# Altium footprint library crystal.PcbLib: 3 footprints
Each footprint in its own frame and in the unit in brackets; x right, y up, seen from the top. Pads: shape width x height; smd on the part's side, far side on the other; paste and mask are expansions set on the pad; w line width, h text height; cw(c..) or ccw(c..) is an arc to the next point about the centre after c.
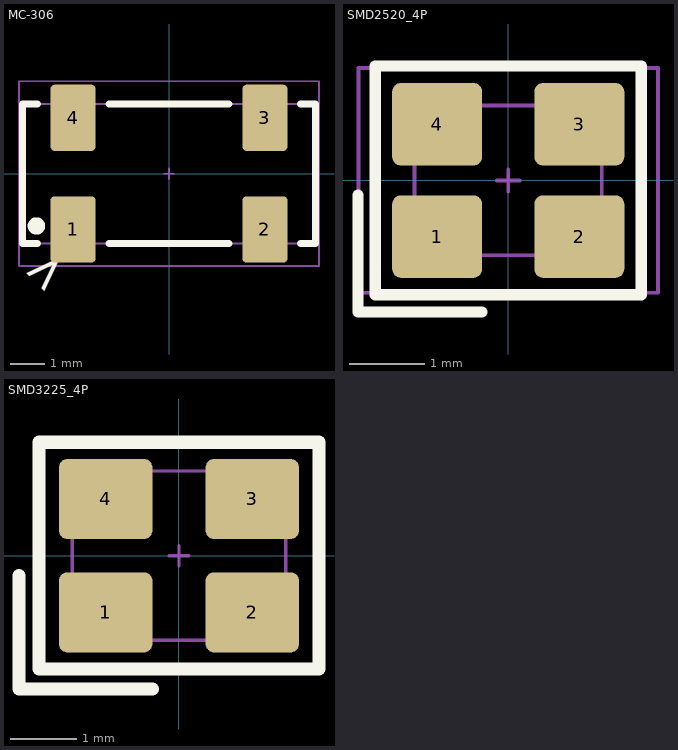
[diagram p0: the footprints below, top view; thin cyan lines are the x and y axes]

## MC-306 [mm]
height 0.89
pads (4):
  rrect20% 1.3x1.9 smd paste+0 mask+0.05: 1(-2.75,-1.6) 2(2.75,-1.6) 3(2.75,1.6) 4(-2.75,1.6)
Top Overlay:
  circle w0.25: c-3.8,-1.5 r0.125
  lines w0.2: -3.775,-2 -4.2,-2 -4.2,2 -3.775,2 ; -1.725,-2 1.725,-2 ; -1.725,2 1.725,2 ; 3.775,-2 4.2,-2 4.2,2 3.775,2
  text ">" at -3.623,-3.53 h1
Top Assembly:
  lines w0.05: -4.2,-2 4.2,-2 4.2,2 -4.2,2 -4.2,-2
Top Courtyard:
  lines w0.05: -4.3,-2.65 4.3,-2.65 4.3,2.65 -4.3,2.65 -4.3,-2.65
Top Component Center (Mech16):
  lines w0.05: -0.15,0 0.15,0 ; 0,-0.15 0,0.15
3D body "Crys_Abracon_ABS25-100_000KHZ-T_eec.STEP": height 0.25, standoff 0, extent -4.3,-2.65 4.3,2.65

## SMD2520_4P [mm]
pads (4):
  rrect20% 1.2x1.1 smd mask+0.05: 1(-0.95,-0.75) 2(0.95,-0.75) 3(0.95,0.75) 4(-0.95,0.75)
Top Overlay:
  lines w0.152: -2.007,-0.201 -2.007,-1.758 -0.351,-1.758 ; -1.779,-1.529 -1.779,1.529 1.779,1.529 1.779,-1.529 -1.779,-1.529
Top Assembly:
  lines w0.051: -1.25,-1 -1.25,1 1.25,1 1.25,-1 -1.25,-1
Top Courtyard:
  lines w0.05: -2,-1.5 2,-1.5 2,1.5 -2,1.5 -2,-1.5
Top Component Center (Mech16):
  lines w0.05: -0.15,0 0.15,0 ; 0,-0.15 0,0.15
3D body "2520 SMD Crystal Oscillator.STEP": height 0.65, standoff -0.05, extent -1.25,-1 1.25,1

## SMD3225_4P [mm]
height 1
pads (4):
  rrect20% 1.4x1.2 smd mask+0.05: 1(-1.1,-0.85) 2(1.1,-0.85) 3(1.1,0.85) 4(-1.1,0.85)
Top Overlay:
  lines w0.2: -2.4,-0.3 -2.4,-2 -0.4,-2 ; -2.1,-1.7 -2.1,1.7 2.1,1.7 2.1,-1.7 -2.1,-1.7
Top Assembly:
  circle w0.1: c-1,-0.8 r0.25
  lines w0.05: -1.6,-1.27 -1.6,1.27 1.6,1.27 1.6,-1.27 -1.6,-1.27
Top Courtyard:
  lines w0.05: -2.1,-1.75 2.1,-1.75 2.1,1.75 -2.1,1.75 -2.1,-1.75
Top Component Center (Mech16):
  lines w0.05: -0.15,0 0.15,0 ; 0,-0.15 0,0.15
3D body "3225 SMD Crystal Oscillator.STEP": height 0.65, standoff -0.05, extent -1.6,-1.25 1.6,1.25